# Altium footprint library WCSP-5.PcbLib: 1 footprints
Each footprint in its own frame and in the unit in brackets; x right, y up, seen from the top. Pads: shape width x height; smd on the part's side, far side on the other; paste and mask are expansions set on the pad; w line width, h text height; cw(c..) or ccw(c..) is an arc to the next point about the centre after c.
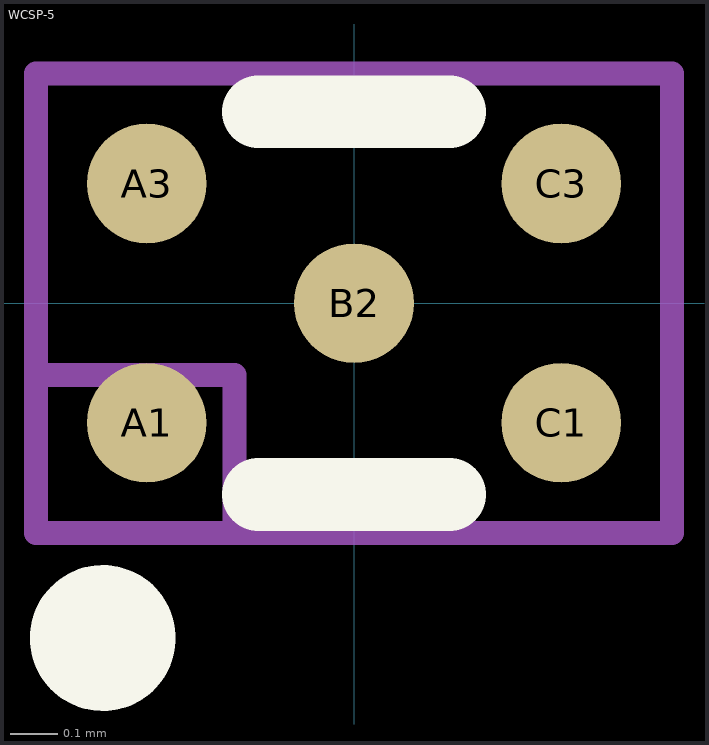
[diagram p0: the footprint, top view; thin cyan lines are the x and y axes]

## WCSP-5 [mm]
pads (5):
  round 0.25 smd mask+0.051: A1(-0.433,-0.25) A3(-0.433,0.25) B2(0,0) C1(0.433,-0.25) C3(0.433,0.25)
Top Overlay:
  circle w0.152: c-0.525,-0.7 r0.076
  lines w0.152: -0.2,-0.4 0.2,-0.4 ; -0.2,0.4 0.2,0.4
Mechanical 13:
  lines w0.05: -0.665,-0.15 -0.25,-0.15 -0.25,-0.48 ; -0.665,-0.48 0.665,-0.48 0.665,0.48 -0.665,0.48 -0.665,-0.48